# Altium schematic symbol library S2B-PH-SM4-TB(LF)(SN).Schlib: 1 symbol
Pins are listed as number, name and electrical type; pins without a type are passive.

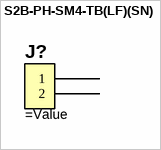
[diagram p0: symbol S2B-PH-SM4-TB(LF)(SN)]

## S2B-PH-SM4-TB(LF)(SN)
designator J?
CONN HEADER PH SIDE 2POS 2MM SMD
pins: 1, 2